# Altium footprint library EISI.PcbLib: 695 footprints (part 19 of 44)
Each footprint in its own frame and in the unit in brackets; x right, y up, seen from the top. Pads: shape width x height; smd on the part's side, far side on the other; paste and mask are expansions set on the pad; w line width, h text height; cw(c..) or ccw(c..) is an arc to the next point about the centre after c.
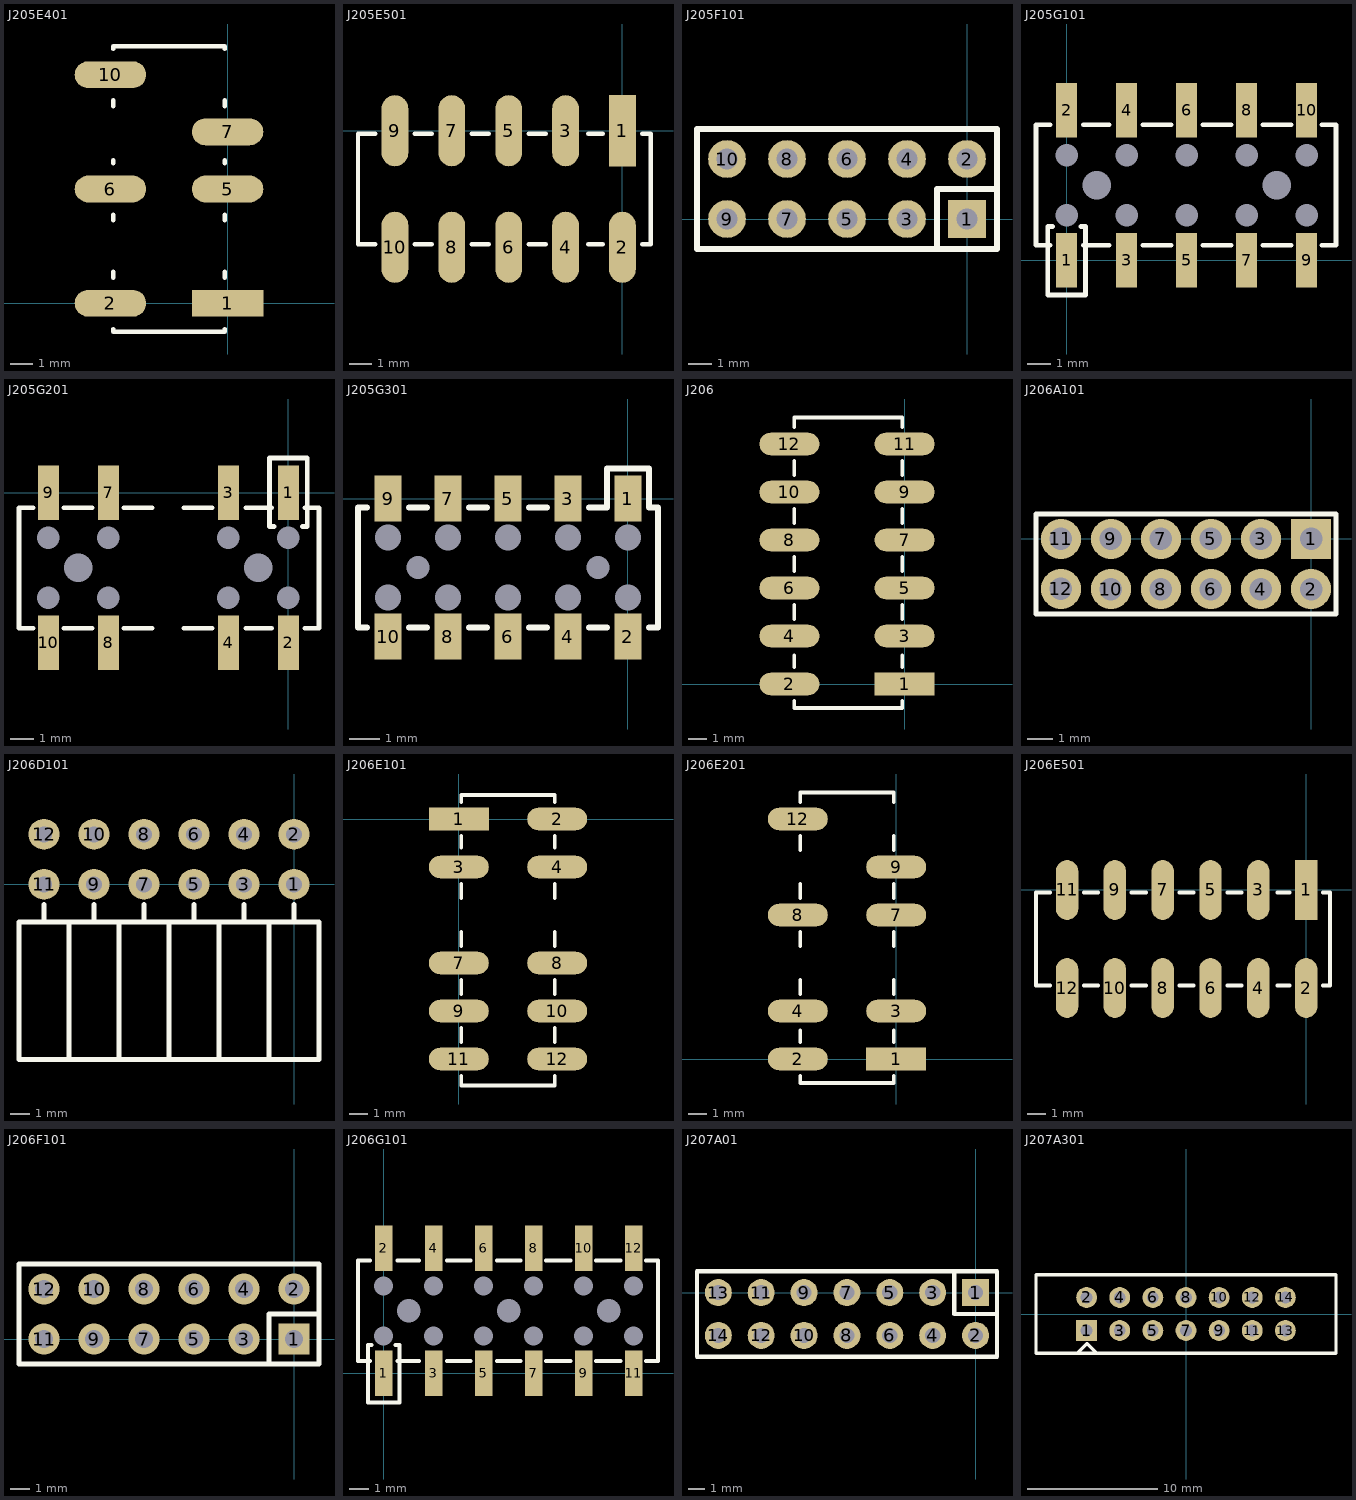
[diagram p18: the footprints below, top view; thin cyan lines are the x and y axes]

## J205E401 [mil]
pads (6):
  rect 125x47 smd: 1(0,0)
  oval 125x47 smd: 2(-205,0) 5(0,200) 6(-205,200) 7(0,300) 10(-205,400)
TopOverlay:
  lines w7.87: -200,-45 -200,-50 -5,-50 -5,-45 ; -200,45 -200,55 ; -200,145 -200,155 ; -200,245 -200,250 ; -200,345 -200,355 ; -200,445 -200,450 -5,450 -5,445 ; -5,45 -5,55 ; -5,145 -5,155 ; -5,245 -5,250 ; -5,345 -5,355

## J205E501 [mil] "Connecteur 2x5 SMD pas 2.54mm"
pads (10):
  rect 47.01x125 smd: 1(0,0)
  oval 47.01x125 smd: 2(0,-205) 3(-100,0)
  oval 47x125 smd: 4(-100,-205) 5(-200,0) 6(-200,-205) 7(-300,0) 8(-300,-205) 9(-400,0) 10(-400,-205)
TopOverlay:
  lines w7.87: -465,-7.09 -465,-200 -435,-200 ; -465,-5 -435,-5 ; -365,-200 -335,-200 ; -365,-5 -335,-5 ; -265,-200 -235,-200 ; -265,-5 -235,-5 ; -165,-200 -135,-200 ; -165,-5 -135,-5 ; -60,-200 -35,-200 ; -60,-5 -35,-5 ; 35,-200 50,-200 50,-5 35,-5

## J205F101 [mm]
pads (10):
  rect 1.6x1.6 hole 0.9: 1(0,0)
  round 1.6 hole 0.9: 2(0,2.54) 3(-2.54,0) 4(-2.54,2.54) 5(-5.08,0) 6(-5.08,2.54) 7(-7.62,0) 8(-7.62,2.54) 9(-10.16,0) 10(-10.16,2.54)
TopOverlay:
  lines w0.254: -1.27,-1.27 -1.27,1.27 1.27,1.27 ; -11.43,-1.27 -11.43,3.81 1.27,3.81 1.27,-1.27 -11.43,-1.27

## J205G101 [mil]
pads (22):
  rect 35x91 smd: 1(0,0) 2(0,250) 3(100,0) 4(100,250) 5(200,0) 6(200,250) 7(300,0) 8(300,250) 9(400,0) 10(400,250)
  round 12 hole 38: ""(0,75) ""(0,175) ""(100,75) ""(100,175) ""(200,75) ""(200,175) ""(300,75) ""(300,175) ""(400,75) ""(400,175)
  round 12 hole 47: ""(50,125) ""(350,125)
TopOverlay:
  lines w7.87: -27.56,25 -51.18,25 -51.18,225.79 -27.56,225.79 ; -23.62,56.5 -31.5,56.5 -31.5,25 -31.5,-57.68 27.56,-57.68 31.5,-57.68 31.5,52.56 31.5,56.5 23.62,56.5 ; 27.56,25 70.87,25 ; 27.56,225.79 70.87,225.79 ; 126.77,25 174.01,25 ; 126.77,225.79 174.01,225.79 ; 226.77,25 274.01,25 ; 226.77,225.79 274.01,225.79 ; 425.2,25 448.82,25 448.82,225.79 425.2,225.79 ; 326.77,25 374.01,25 326.77,25 ; 326.77,225.79 374.01,225.79 326.77,225.79

## J205G201 [mil]
pads (18):
  rect 35x91 smd: 1(0,0) 2(0,-250) 3(-100,0) 4(-100,-250) 7(-300,0) 8(-300,-250) 9(-400,0) 10(-400,-250)
  round 12 hole 38: ""(-400,-175) ""(-400,-75) ""(-300,-175) ""(-300,-75) ""(-100,-175) ""(-100,-75) ""(0,-175) ""(0,-75)
  round 12 hole 47: ""(-350,-125) ""(-50,-125)
TopOverlay:
  lines w7.87: -425.2,-225.79 -448.82,-225.79 -448.82,-25 -425.2,-25 ; -274.01,-225.79 -226.77,-225.79 ; -274.01,-25 -226.77,-25 ; -174.01,-225.79 -126.77,-225.79 ; -174.01,-25 -126.77,-25 ; -70.87,-225.79 -27.56,-225.79 ; -70.87,-25 -27.56,-25 ; -23.62,-56.5 -31.5,-56.5 -31.5,-52.56 -31.5,57.68 -27.56,57.68 31.5,57.68 31.5,-25 31.5,-56.5 23.62,-56.5 ; 27.56,-225.79 51.18,-225.79 51.18,-25 27.56,-25 ; -374.01,-225.79 -326.77,-225.79 -374.01,-225.79 ; -374.01,-25 -326.77,-25 -374.01,-25

## J205G301 [mm]
pads (22):
  rect 0.889x1.524 smd: 1(0,0) 2(0,-4.6) 3(-2,0) 4(-2,-4.6) 5(-4,0) 6(-4,-4.6) 7(-6,0) 8(-6,-4.6) 9(-8,0) 10(-8,-4.6)
  round 0.305 hole 0.86: ""(-8,-3.3) ""(-8,-1.3) ""(-6,-3.3) ""(-6,-1.3) ""(-4,-3.3) ""(-4,-1.3) ""(-2,-3.3) ""(-2,-1.3) ""(0,-3.3) ""(0,-1.3)
  round 0.305 hole 0.76: ""(-7,-2.3) ""(-1,-2.3)
TopOverlay:
  lines w0.2: -8.7,-4.3 -9,-4.3 -9,-0.3 -8.7,-0.3 ; -7.3,-4.3 -6.7,-4.3 ; -7.3,-0.3 -6.7,-0.3 ; -5.3,-4.3 -4.7,-4.3 ; -5.3,-0.3 -4.7,-0.3 ; -3.3,-4.3 -2.7,-4.3 ; -3.3,-0.3 -2.7,-0.3 ; -1.3,-4.3 -0.7,-4.3 ; -1.3,-0.3 -0.7,-0.3 -0.7,0.4 -0.7,1 0.7,1 0.7,-0.3 1,-0.3 1,-4.3 0.7,-4.3

## J206 [mil]
pads (12):
  rect 125x47 smd: 1(0,0)
  oval 125x47 smd: 2(-240,0) 3(0,100) 4(-240,100) 5(0,200) 6(-240,200) 7(0,300) 8(-240,300) 9(0,400) 10(-240,400) 11(0,500) 12(-240,500)
TopOverlay:
  lines w7.87: -230,-35 -230,-50 -5,-50 -5,-35 ; -230,35 -230,60 ; -230,135 -230,165 ; -230,235 -230,265 ; -230,335 -230,365 ; -230,435 -230,465 ; -230,535 -230,555 -5,555 -5,535 ; -5,35 -5,60 ; -5,135 -5,165 ; -5,235 -5,265 ; -5,335 -5,365 ; -5,435 -5,465

## J206A101 [mm]
pads (12):
  rect 1.6x1.6 hole 0.9: 1(0,0)
  round 1.6 hole 0.9: 2(0,-2) 3(-2,0) 4(-2,-2) 5(-4,0) 6(-4,-2) 7(-6,0) 8(-6,-2) 9(-8,0) 10(-8,-2) 11(-10,0) 12(-10,-2)
TopOverlay:
  lines w0.2: -11,-3 1,-3 1,1 -11,1 -11,-3

## J206D101 [mil]
pads (12):
  round 62 hole 32: 1(0,0) 2(0,100) 3(-100,0) 4(-100,100) 5(-200,0) 6(-200,100) 7(-300,0) 8(-300,100) 9(-400,0) 10(-400,100) 11(-500,0) 12(-500,100)
TopOverlay:
  lines w10: -500,-75 -500,-40 ; -400,-75 -400,-40 ; -300,-75 -300,-40 ; -200,-75 -200,-40 ; -150,-350 -150,-75 ; -100,-75 -100,-40 ; -50,-350 -50,-75 ; 0,-75 0,-40 ; -250,-350 50,-350 50,-75 -250,-75 ; -250,-350 -250,-75 ; -250,-350 -250,-75 ; -250,-350 -550,-350 -550,-75 -250,-75 ; -450,-350 -450,-75 -450,-350 ; -350,-350 -350,-75 -350,-350

## J206E101 [mil]
pads (10):
  rect 125x47 smd: 1(0,0)
  oval 125x47 smd: 2(205,0) 3(0,-100) 4(205,-100) 7(0,-300) 8(205,-300) 9(0,-400) 10(205,-400) 11(0,-500) 12(205,-500)
TopOverlay:
  lines w7.87: 5,-535 5,-555 200,-555 200,-535 ; 5,-465 5,-435 ; 5,-365 5,-335 ; 5,-265 5,-235 ; 5,-165 5,-135 ; 5,-60 5,-35 ; 5,35 5,50 200,50 200,35 ; 200,-465 200,-435 ; 200,-365 200,-335 ; 200,-265 200,-235 ; 200,-165 200,-135 ; 200,-60 200,-35

## J206E201 [mil]
pads (8):
  rect 125x47 smd: 1(0,0)
  oval 125x47 smd: 2(-205,0) 3(0,100) 4(-205,100) 7(0,300) 8(-205,300) 9(0,400) 12(-205,500)
TopOverlay:
  lines w7.87: -200,-35 -200,-50 -5,-50 -5,-35 ; -200,35 -200,60 ; -200,135 -200,165 ; -200,235 -200,265 ; -200,335 -200,365 ; -200,435 -200,465 ; -200,535 -200,555 -5,555 -5,535 ; -5,35 -5,60 ; -5,135 -5,165 ; -5,235 -5,265 ; -5,335 -5,365 ; -5,435 -5,465

## J206E501 [mil] "Connecteur 2x6 SMD pas 2.54mm"
pads (12):
  rect 47.01x125 smd: 1(0,0)
  oval 47.01x125 smd: 2(0,-205) 3(-100,0)
  oval 47x125 smd: 4(-100,-205) 5(-200,0) 6(-200,-205) 7(-300,0) 8(-300,-205) 9(-400,0) 10(-400,-205) 11(-500,0) 12(-500,-205)
TopOverlay:
  lines w7.87: -565,-7.09 -565,-200 -535,-200 ; -565,-5 -535,-5 ; -465,-200 -435,-200 ; -465,-5 -435,-5 ; -365,-200 -335,-200 ; -365,-5 -335,-5 ; -265,-200 -235,-200 ; -265,-5 -235,-5 ; -165,-200 -135,-200 ; -165,-5 -135,-5 ; -60,-200 -35,-200 ; -60,-5 -35,-5 ; 35,-200 50,-200 50,-5 35,-5

## J206F101 [mm]
pads (12):
  rect 1.6x1.6 hole 0.9: 1(0,0)
  round 1.6 hole 0.9: 2(0,2.54) 3(-2.54,0) 4(-2.54,2.54) 5(-5.08,0) 6(-5.08,2.54) 7(-7.62,0) 8(-7.62,2.54) 9(-10.16,0) 10(-10.16,2.54) 11(-12.7,0) 12(-12.7,2.54)
TopOverlay:
  lines w0.254: -1.27,-1.27 -1.27,1.27 1.27,1.27 ; -13.97,-1.27 1.27,-1.27 1.27,3.81 -13.97,3.81 -13.97,-1.27

## J206G101 [mil]
pads (27):
  rect 35x91 smd: 1(0,0) 2(0,250) 3(100,0) 4(100,250) 5(200,0) 6(200,250) 7(300,0) 8(300,250) 9(400,0) 10(400,250) 11(500,0) 12(500,250)
  round 12 hole 38: ""(0,75) ""(0,175) ""(100,75) ""(100,175) ""(200,75) ""(200,175) ""(300,75) ""(300,175) ""(400,75) ""(400,175) ""(500,75) ""(500,175)
  round 12 hole 47: ""(50,125) ""(250,125) ""(450,125)
TopOverlay:
  lines w7.87: -27.56,25 -51.18,25 -51.18,225.79 -27.56,225.79 ; -23.62,56.5 -31.5,56.5 -31.5,25 -31.5,-57.68 27.56,-57.68 31.5,-57.68 31.5,52.56 31.5,56.5 23.62,56.5 ; 27.56,25 70.87,25 ; 27.56,225.79 70.87,225.79 ; 126.77,25 174.01,25 ; 126.77,225.79 174.01,225.79 ; 226.77,25 274.01,25 ; 226.77,225.79 274.01,225.79 ; 325.2,25 348.82,25 ; 325.2,225.79 348.82,225.79 ; 326.77,25 374.01,25 ; 326.77,225.79 374.01,225.79 ; 425.2,25 448.82,25 ; 425.2,225.79 448.82,225.79 ; 426.77,25 474.01,25 ; 426.77,225.79 474.01,225.79 ; 525.2,25 548.82,25 548.82,225.79 525.2,225.79

## J207A01 [mm]
pads (14):
  rect 1.6x1.6 hole 0.9: 1(0,0)
  round 1.6 hole 0.9: 2(0,-2.54) 3(-2.54,0) 4(-2.54,-2.54) 5(-5.08,0) 6(-5.08,-2.54) 7(-7.62,0) 8(-7.62,-2.54) 9(-10.16,0) 10(-10.16,-2.54) 11(-12.7,0) 12(-12.7,-2.54) 13(-15.24,0) 14(-15.24,-2.54)
TopOverlay:
  lines w0.254: -16.5,1.25 -16.5,-3.81 1.27,-3.81 1.27,1.27 -16.5,1.27 ; -1.27,1.27 -1.27,-1.27 1.27,-1.27

## J207A301 [mm] "Header 14 pôles  a sertir"
height 5.5
pads (14):
  rect 1.6x1.6 hole 0.9: 1(-7.62,-1.27)
  round 1.6 hole 0.9: 2(-7.62,1.27) 3(-5.08,-1.27) 4(-5.08,1.27) 5(-2.54,-1.27) 6(-2.54,1.27) 7(0,-1.27) 8(0,1.27) 9(2.54,-1.27) 10(2.54,1.27) 11(5.08,-1.27) 12(5.08,1.27) 13(7.62,-1.27) 14(7.62,1.27)
TopOverlay:
  lines w0.254: -8.382,-3 -8.334,-3 -7.62,-2.286 -7.572,-2.286 -6.858,-3 ; -8.128,-3 -8.08,-3 ; -7.16,-3 -7.112,-3 ; -11.5,-3 11.5,-3 11.5,3 -11.5,3 -11.5,-3